# EAGLE library part PI3USB302-AZBEX_ANALOG_SWITCH (library Joule Expansion Board)
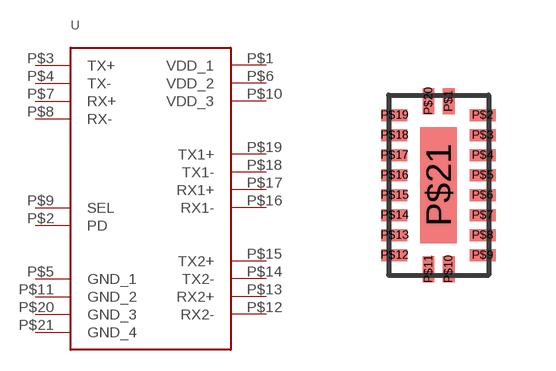
[diagram p7: symbol with the pads of 20-TQFP; footprint 20-TQFP]

Designator prefix -

## PI3USB302-AZBEX_ANALOG_SWITCH  [20-TQFP]
P$1  VDD_1
P$2  PD
P$3  TX+
P$4  TX-
P$5  GND_1
P$6  VDD_2
P$7  RX+
P$8  RX-
P$9  SEL
P$10  VDD_3
P$11  GND_2
P$12  RX2-
P$13  RX2+
P$14  TX2-
P$15  TX2+
P$16  RX1-
P$17  RX1+
P$18  TX1-
P$19  TX1+
P$20  GND_3
P$21  GND_4

## Footprint 20-TQFP (pad centres in mm)
smd 0.3 x 0.65: P$1 0.25,2.1; P$10 0.25,-2.1; P$11 -0.25,-2.1; P$20 -0.25,2.1
smd 0.65 x 0.3: P$2 1.1,1.75; P$3 1.1,1.25; P$4 1.1,0.75; P$5 1.1,0.25; P$6 1.1,-0.25; P$7 1.1,-0.75; P$8 1.1,-1.25; P$9 1.1,-1.75; P$12 -1.1,-1.75; P$13 -1.1,-1.25; P$14 -1.1,-0.75; P$15 -1.1,-0.25; P$16 -1.1,0.25; P$17 -1.1,0.75; P$18 -1.1,1.25; P$19 -1.1,1.75
smd 0.9 x 2.9: P$21 0,0